# EAGLE library part TS3A4741 (library DAC)
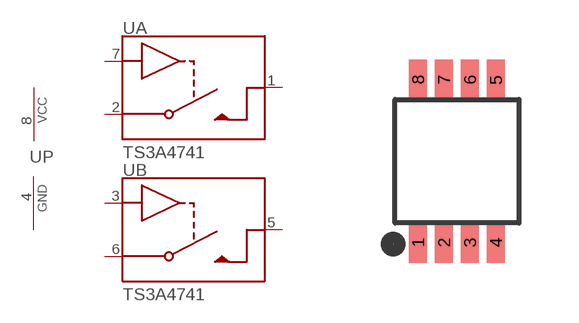
[diagram p11: symbol with the pads of SOP8; footprint SOP8]

Designator prefix U; gates A=4741 B=4741 P=PWR

## TS3A4741  [SOP8]
1  A:NO
2  A:COM
3  B:IN
4  P:GND  pwr
5  B:NO
6  B:COM
7  A:IN
8  P:VCC  pwr

## Footprint SOP8 (pad centres in mm)
smd 0.45 x 1: 1 -0.975,-2.038; 2 -0.325,-2.038; 3 0.325,-2.038; 4 0.975,-2.038; 5 0.975,2.038; 6 0.325,2.038; 7 -0.325,2.038; 8 -0.975,2.038